# Altium schematic symbol library usb.SchLib: 2 symbols
Pins are listed as number, name and electrical type; pins without a type are passive.

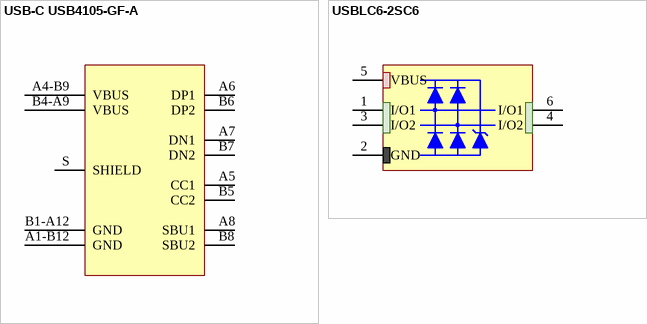
[diagram p0: symbols USB-C USB4105-GF-A to USBLC6-2SC6]

## USB-C USB4105-GF-A
designator CN?, comment USB4105-GF-A  (value not drawn)
footprint USB4105-GF-A
pins: A1-B12 GND (power), A4-B9 VBUS (power), A5 CC1, A6 DP1, A7 DN1, A8 SBU1, B1-A12 GND (power), B4-A9 VBUS (power), B5 CC2, B6 DP2, B7 DN2, B8 SBU2, S SHIELD

## USBLC6-2SC6
designator U?
footprint SOT23-6L
pins: 1 I/O1, 2 GND, 3 I/O2, 4 I/O2, 5 VBUS, 6 I/O1